# EAGLE library part 82XMM_POGO_PIN (library kanflo)
8x 1.02mm pogo pins P75-B1 Dia 1.02mm 100g Spring Test Probe Pogo Pin found on eBay.
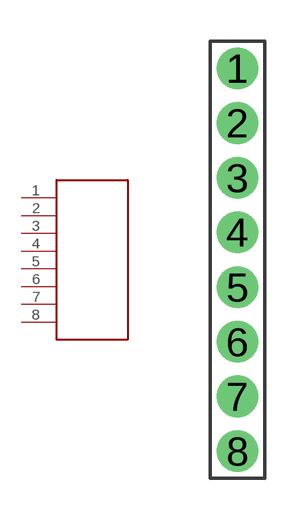
[diagram p5: symbol with the pads of 8X2MM_POGO_PIN; footprint 8X2MM_POGO_PIN]

Designator prefix J

## 82XMM_POGO_PIN  [8X2MM_POGO_PIN]
1  1
2  2
3  3
4  4
5  5
6  6
7  7
8  8

## Footprint 8X2MM_POGO_PIN (pad centres in mm)
drill 1.016 pad 1.422: 1 0,8; 2 0,6; 3 0,4; 4 0,2; 5 0,0; 6 0,-2; 7 0,-4; 8 0,-6